# Altium schematic symbol library C0201.Schlib: 1 symbol
Pins are listed as number, name and electrical type; pins without a type are passive.

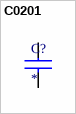
[diagram p0: symbol C0201]

## C0201
designator C?
0201 ceramic capacitor
pins: 1, 2